# Altium schematic symbol library heatsink.SchLib: 1 symbol
Pins are listed as number, name and electrical type; pins without a type are passive.

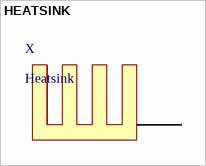
[diagram p0: symbol HEATSINK]

## HEATSINK
designator X, comment Heatsink
footprint HEATSINK 20x14x6
pins: 1